# Altium footprint library SO芯片.PcbLib: 42 footprints (part 1 of 3)
Each footprint in its own frame and in the unit in brackets; x right, y up, seen from the top. Pads: shape width x height; smd on the part's side, far side on the other; paste and mask are expansions set on the pad; w line width, h text height; cw(c..) or ccw(c..) is an arc to the next point about the centre after c.
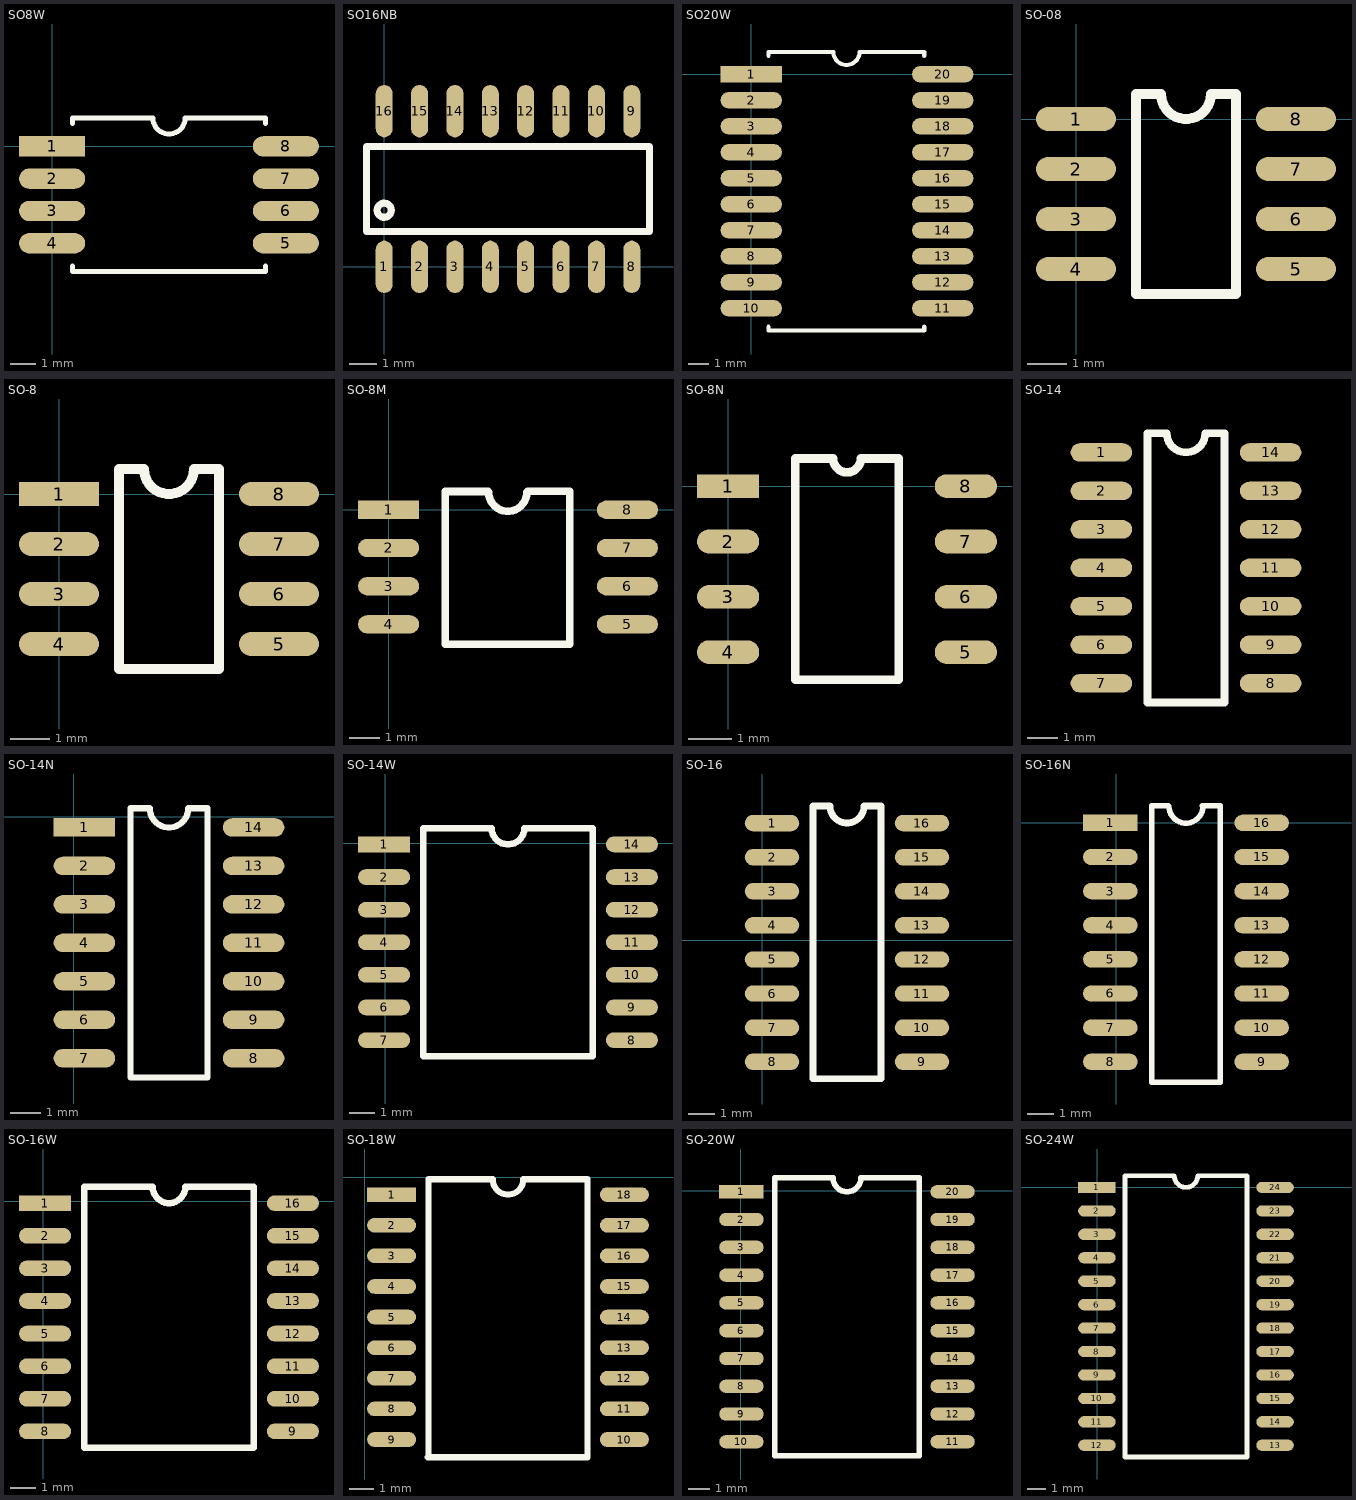
[diagram p0: the footprints below, top view; thin cyan lines are the x and y axes]

## SO8W [mm]
pads (8):
  rect 2.6x0.8 smd: 1(0,0)
  oval 2.6x0.8 smd: 2(0,-1.27) 3(0,-2.54) 4(0,-3.81) 5(9.2,-3.81) 6(9.2,-2.54) 7(9.2,-1.27) 8(9.2,0)
Top Overlay:
  lines w0.2: 0.8,-4.71 0.8,-4.93 8.4,-4.93 8.4,-4.71 ; 0.8,0.9 0.8,1.12 3.965,1.12 ccw(c4.6,1.12) 5.235,1.12 8.4,1.12 8.4,0.9

## SO16NB [mil]
pads (16):
  oval 24x74 smd: 1(0,0) 2(50,0) 3(100,0) 4(150,0) 5(200,0) 6(250,0) 7(300,0) 8(350,0) 9(350,220) 10(300,220) 11(250,220) 12(200,220) 13(150,220) 14(100,220) 15(50,220) 16(0,220)
Top Overlay:
  circle w10: c0,80 r10
  lines w10: -25,50 375,50 375,170 -25,170 -25,50
3D body "User Library-SOIC16-150.STEP": height 68.9, standoff 0, extent -18.83,-5 367,223.35

## SO20W [mm]
pads (20):
  rect 3x0.8 smd: 1(0,0)
  oval 3x0.8 smd: 2(0,-1.27) 3(0,-2.54) 4(0,-3.81) 5(0,-5.08) 6(0,-6.35) 7(0,-7.62) 8(0,-8.89) 9(0,-10.16) 10(0,-11.43) 11(9.352,-11.43) 12(9.352,-10.16) 13(9.352,-8.89) 14(9.352,-7.62) 15(9.352,-6.35) 16(9.352,-5.08) 17(9.352,-3.81) 18(9.352,-2.54) 19(9.352,-1.27) 20(9.352,0)
Top Overlay:
  lines w0.2: 0.851,-12.33 0.851,-12.515 8.451,-12.515 8.451,-12.33 ; 0.851,0.9 0.851,1.085 4.016,1.085 ccw(c4.651,1.085) 5.286,1.085 8.451,1.085 8.451,0.9

## SO-08 [mil]
pads (8):
  oval 80x24 smd: 1(0,0) 2(0,-50) 3(0,-100) 4(0,-150) 5(220,-150) 6(220,-100) 7(220,-50) 8(220,0)
Top Overlay:
  lines w10: 60,-175 60,25 85,25 ccw(c110,25) 135,25 160,25 160,-175 60,-175

## SO-8 [mil]
pads (8):
  rect 80x24 smd: 1(0,0)
  oval 80x24 smd: 2(0,-50) 3(0,-100) 4(0,-150) 5(220,-150) 6(220,-100) 7(220,-50) 8(220,0)
Top Overlay:
  lines w10: 60,-175 160,-175 160,25 135,25 cw(c110,25) 85,25 60,25 60,-175

## SO-8M [mil]
pads (8):
  rect 80x24 smd: 1(0,0)
  oval 80x24 smd: 2(0,-50) 3(0,-100) 4(0,-150) 5(312.6,-150) 6(312.6,-100) 7(312.6,-50) 8(312.6,0)
Top Overlay:
  lines w10: 130.06,23.94 74.39,23.94 74.39,-176.06 237.01,-176.06 ; 131,23 ccw(c156,23) 181,23 ; 182,24 237.01,24 ; 236.01,23 237.01,24 ; 237.01,-176 237.01,24

## SO-8N [mm]
pads (8):
  rect 1.44x0.55 smd: 1(0,0)
  oval 1.44x0.55 smd: 2(0,-1.28) 3(0,-2.56) 4(0,-3.84) 5(5.5,-3.84) 6(5.5,-2.56) 7(5.5,-1.28) 8(5.5,0)
Top Overlay:
  lines w0.2: 1.555,-4.48 3.945,-4.48 3.945,0.64 3.07,0.64 cw(c2.75,0.64) 2.43,0.64 1.555,0.64 1.555,-4.48

## SO-14 [mil]
pads (14):
  oval 80x24 smd: 1(142,-76) 2(142,-126) 3(142,-176) 4(142,-226) 5(142,-276) 6(142,-326) 7(142,-376) 8(362,-376) 9(362,-326) 10(362,-276) 11(362,-226) 12(362,-176) 13(362,-126) 14(362,-76)
Top Overlay:
  lines w10: 202,-401 202,-51 227,-51 ccw(c252,-51) 277,-51 302,-51 302,-401 202,-401

## SO-14N [mil]
pads (14):
  rect 80x24 smd: 1(14,-14)
  oval 80x24 smd: 2(14,-64) 3(14,-114) 4(14,-164) 5(14,-214) 6(14,-264) 7(14,-314) 8(234,-314) 9(234,-264) 10(234,-214) 11(234,-164) 12(234,-114) 13(234,-64) 14(234,-14)
Top Overlay:
  lines w8: 74,-339 74,11 99,11 ccw(c124,11) 149,11 174,11 174,-339 74,-339

## SO-14W [mil]
pads (14):
  rect 80x24 smd: 1(-2,-2)
  oval 80x24 smd: 2(-2,-52) 3(-2,-102) 4(-2,-152) 5(-2,-202) 6(-2,-252) 7(-2,-302) 8(378,-302) 9(378,-252) 10(378,-202) 11(378,-152) 12(378,-102) 13(378,-52) 14(378,-2)
Top Overlay:
  lines w10: 58,-327 58,23 163,23 ccw(c188,23) 213,23 318,23 318,-327 58,-327

## SO-16 [mil]
pads (16):
  oval 80x24 smd: 1(14,172) 2(14,122) 3(14,72) 4(14,22) 5(14,-28) 6(14,-78) 7(14,-128) 8(14,-178) 9(234,-178) 10(234,-128) 11(234,-78) 12(234,-28) 13(234,22) 14(234,72) 15(234,122) 16(234,172)
Top Overlay:
  lines w10: 74,-203 74,197 99,197 ccw(c124,197) 149,197 174,197 174,-203 74,-203

## SO-16N [mil]
pads (16):
  rect 80x24 smd: 1(-9,0.1)
  oval 80x24 smd: 2(-9,-49.9) 3(-9,-99.9) 4(-9,-149.9) 5(-9,-199.9) 6(-9,-249.9) 7(-9,-299.9) 8(-9,-349.9) 9(212.9,-349.9) 10(212.9,-299.9) 11(212.9,-249.9) 12(212.9,-199.9) 13(212.9,-149.9) 14(212.9,-99.9) 15(212.9,-49.9) 16(212.9,0.1)
Top Overlay:
  lines w8: 51.9,24.72 51.9,-379.9 151.9,-379.9 151.9,24.72 ; 51.9,25.1 76,25.1 ; 76.9,24.72 ccw(c101.9,24.72) 126.9,24.72 ; 126,25.1 151.9,25.1

## SO-16W [mil]
pads (16):
  rect 80x24 smd: 1(3,-3)
  oval 80x24 smd: 2(3,-53) 3(3,-103) 4(3,-153) 5(3,-203) 6(3,-253) 7(3,-303) 8(3,-353) 9(383,-353) 10(383,-303) 11(383,-253) 12(383,-203) 13(383,-153) 14(383,-103) 15(383,-53) 16(383,-3)
Top Overlay:
  lines w10: 167.72,22 63,22 63,-378 323,-378 323,22 218,22 cw(c193,22) 168,22

## SO-18W [mil]
pads (18):
  rect 80x24 smd: 1(44,-28)
  oval 80x24 smd: 2(44,-78) 3(44,-128) 4(44,-178) 5(44,-228) 6(44,-278) 7(44,-328) 8(44,-378) 9(44,-428) 10(424,-428) 11(424,-378) 12(424,-328) 13(424,-278) 14(424,-228) 15(424,-178) 16(424,-128) 17(424,-78) 18(424,-28)
Top Overlay:
  lines w10: 103,-457 363,-457 ; 104,-457 104,-3 209,-3 ccw(c234,-3) 259,-3 364,-3 364,-457

## SO-20W [mil]
pads (20):
  rect 80x24 smd: 1(1,-2)
  oval 80x24 smd: 2(1,-52) 3(1,-102) 4(1,-152) 5(1,-202) 6(1,-252) 7(1,-302) 8(1,-352) 9(1,-402) 10(1,-452) 11(381,-452) 12(381,-402) 13(381,-352) 14(381,-302) 15(381,-252) 16(381,-202) 17(381,-152) 18(381,-102) 19(381,-52) 20(381,-2)
Top Overlay:
  lines w10: 61,-477 321,-477 321,23 216,23 cw(c191,23) 166,23 61,23 61,-477

## SO-24W [mil]
pads (24):
  rect 80x24 smd: 1(-1,0)
  oval 80x24 smd: 2(-1,-50) 3(-1,-100) 4(-1,-150) 5(-1,-200) 6(-1,-250) 7(-1,-300) 8(-1,-350) 9(-1,-400) 10(-1,-450) 11(-1,-500) 12(-1,-550) 13(379,-550) 14(379,-500) 15(379,-450) 16(379,-400) 17(379,-350) 18(379,-300) 19(379,-250) 20(379,-200) 21(379,-150) 22(379,-100) 23(379,-50) 24(379,0)
Top Overlay:
  lines w10: 59,-575 319,-575 319,25 214,25 cw(c189,25) 164,25 59,25 59,-575